# EAGLE library part CN-NXP-JTAG (library Connector)
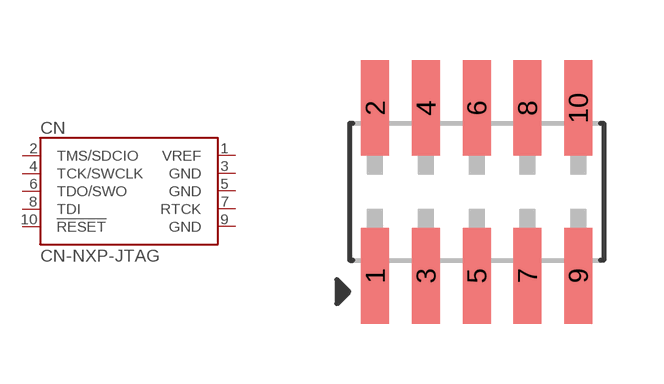
[diagram p27: symbol with the pads of PIN2X5-SMT1.27; footprint PIN2X5-SMT1.27]

Designator prefix CN

## CN-NXP-JTAG  [PIN2X5-SMT1.27]
1  VREF  pas
2  TMS/SDCIO  pas
3  GND  pas
4  TCK/SWCLK  pas
5  GND  pas
6  TDO/SWO  pas
7  RTCK  pas
8  TDI  pas
9  GND  pas
10  !RESET  pas

## Footprint PIN2X5-SMT1.27 (pad centres in mm)
smd 0.7 x 2.4: 1 -2.54,-2.1; 2 -2.54,2.1; 3 -1.27,-2.1; 4 -1.27,2.1; 5 0,-2.1; 6 0,2.1; 7 1.27,-2.1; 8 1.27,2.1; 9 2.54,-2.1; 10 2.54,2.1